# Altium footprint library Misc.PCBLIB: 58 footprints (part 2 of 4)
Each footprint in its own frame and in the unit in brackets; x right, y up, seen from the top. Pads: shape width x height; smd on the part's side, far side on the other; paste and mask are expansions set on the pad; w line width, h text height; cw(c..) or ccw(c..) is an arc to the next point about the centre after c.
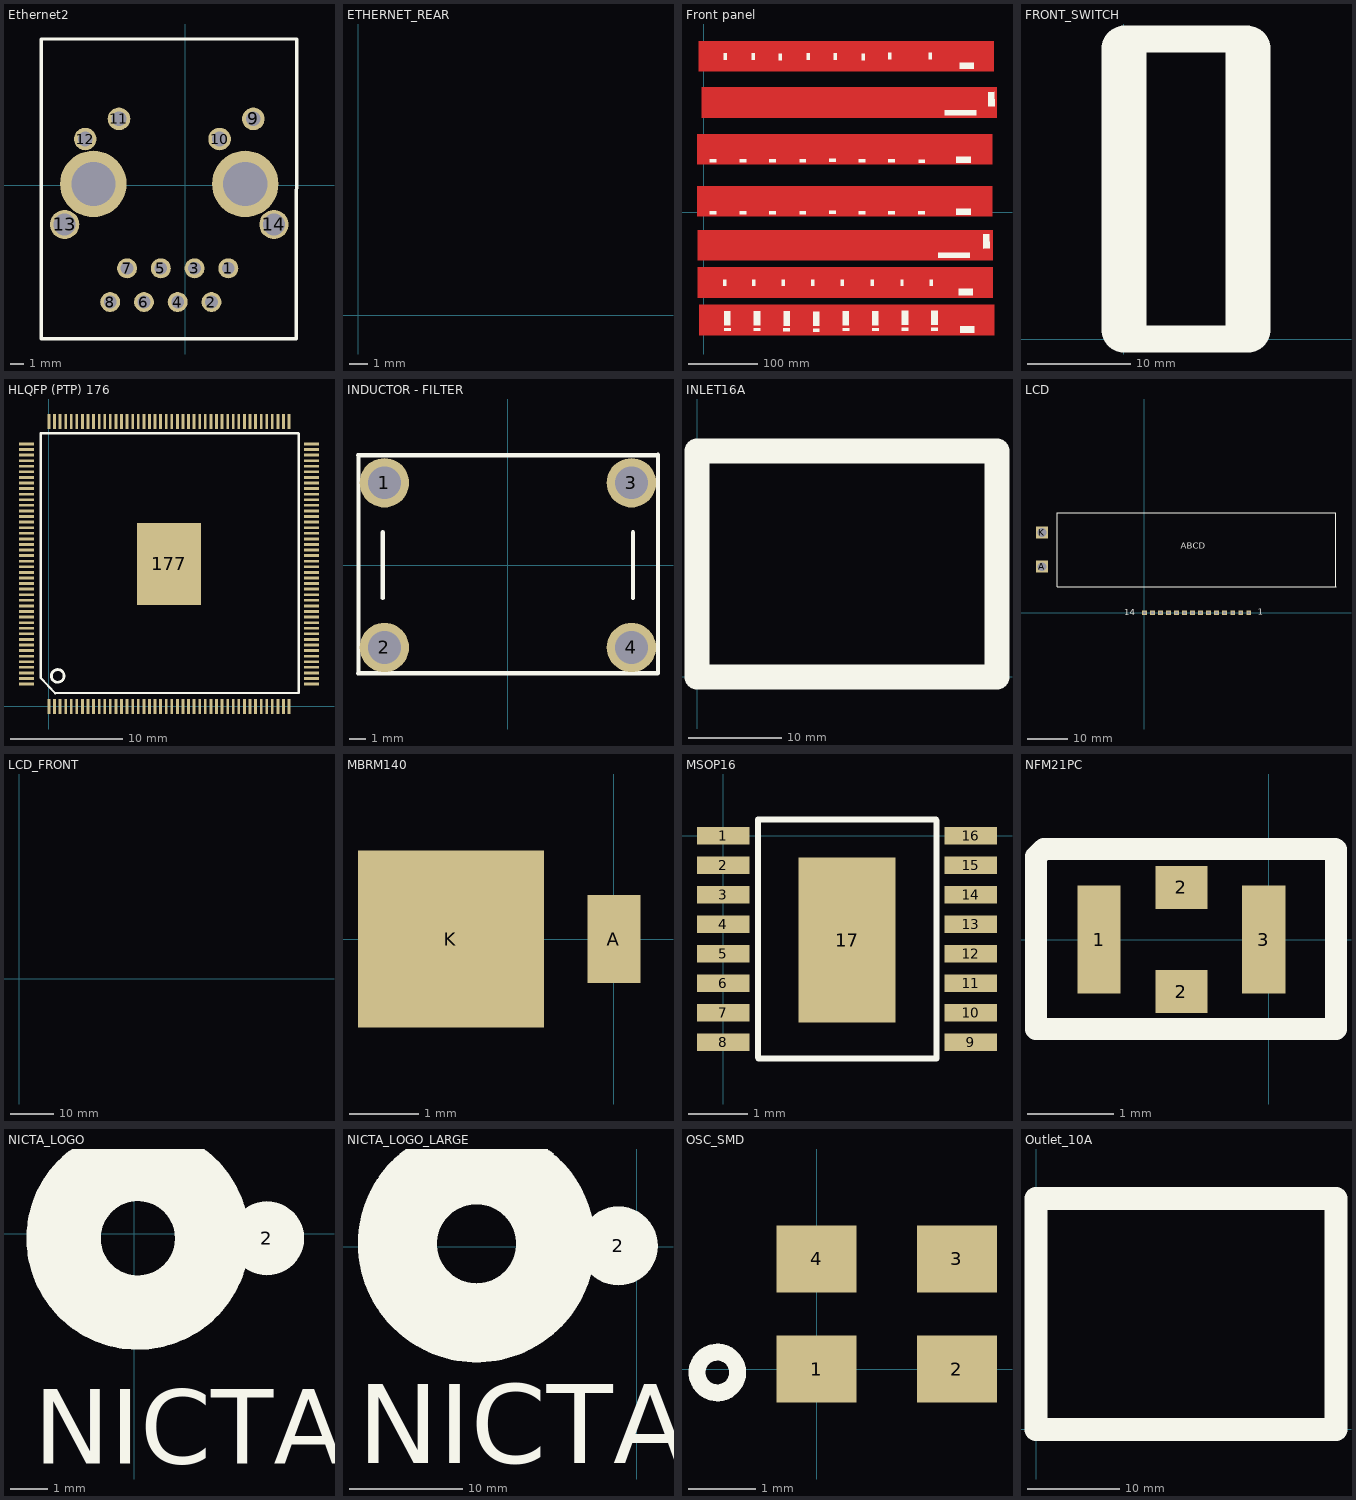
[diagram p1: the footprints below, top view; thin cyan lines are the x and y axes]

## Ethernet2 [mm]
pads (16):
  round 1.5 hole 0.96: 1(3.24,-6.26) 2(1.97,-8.8) 3(0.7,-6.26) 4(-0.57,-8.8) 5(-1.84,-6.26) 6(-3.11,-8.8) 7(-4.38,-6.26) 8(-5.65,-8.8)
  round 1.7 hole 1.1: 9(5.12,4.99) 10(2.58,3.47) 11(-4.99,4.99) 12(-7.53,3.47)
  round 2.2 hole 1.65: 13(-9.08,-2.96) 14(6.67,-2.96)
  round 5 hole 3.32: ""(-6.92,0.09) ""(4.51,0.09)
Top Overlay:
  lines w0.254: 8.36,-11.58 8.39,11 -10.84,11 -10.84,-11.56 8.37,-11.57

## ETHERNET_REAR [mm]
Multi-Layer:
  rectangle: 0,0 16.5,13.9

## Front panel [mm]
Top Layer:
  rectangle: -7.12,201.95 417.88,245.95
  rectangle: -8.88,-69.76 416.12,-25.76
  rectangle: -9.38,-6.47 415.62,37.53
  rectangle: -6.32,-177.11 418.68,-133.11
  rectangle: -8.43,-123.22 416.57,-79.22
  rectangle: -9.38,68.35 415.62,112.35
  rectangle: -2.98,135.63 422.02,179.63
Bottom Layer:
  region: 318.42,241.28 276.42,241.28 276.42,207.28 318.42,207.28
  rectangle: 157.16,205.65 185.16,241.65
  rectangle: 196.64,205.03 224.64,241.03
  rectangle: 234.87,206.27 262.87,242.27
  rectangle: 157.2,205.53 185.2,241.53
  rectangle: 117.72,205.53 145.72,241.53
  rectangle: 78.24,204.91 106.24,240.91
  rectangle: 340.54,217.07 415.54,242.07
  rectangle: 38.08,205.63 66.08,241.63
  rectangle: -1.96,205.53 26.04,241.53
  rectangle: 322,-54.93 397,-29.93
  rectangle: 2.48,-65.42 30.48,-29.42
  rectangle: 42.48,-65.42 70.48,-29.42
  rectangle: 82.48,-65.42 110.48,-29.42
  rectangle: 162.48,-65.42 190.48,-29.42
  rectangle: 122.48,-65.42 150.48,-29.42
  rectangle: 202.48,-65.42 230.48,-29.42
  rectangle: 242.48,-65.42 270.48,-29.42
  rectangle: 282.48,-65.42 310.48,-29.42
  region: 32,4 32,32 -4,32 -4,4
  region: 74.6,4 74.6,32 38.6,32 38.6,4
  rectangle: 335.73,8.64 410.73,33.64
  region: 117.2,4 117.2,32 81.2,32 81.2,4
  region: 159.8,4 159.8,32 123.8,32 123.8,4
  region: 287.56,4.12 287.56,32.12 251.56,32.12 251.56,4.12
  region: 244.96,4.12 244.96,32.12 208.96,32.12 208.96,4.12
  region: 202.36,4.12 202.36,32.12 166.36,32.12 166.36,4.12
  region: 330.15,4.31 330.15,32.31 294.15,32.31 294.15,4.31
  rectangle: 296.99,-173.22 324.99,-137.22
  rectangle: 169.2,-173.41 197.2,-137.41
  rectangle: 211.8,-173.41 239.8,-137.41
  rectangle: 254.4,-173.41 282.4,-137.41
  rectangle: 169.24,-173.53 197.24,-137.53
  rectangle: 126.64,-173.53 154.64,-137.53
  rectangle: 84.04,-173.53 112.04,-137.53
  rectangle: 341.34,-161.99 416.34,-136.99
  rectangle: 41.44,-173.53 69.44,-137.53
  rectangle: -1.16,-173.53 26.84,-137.53
  rectangle: -3.27,-119.64 24.73,-83.64
  rectangle: 39.33,-119.64 67.33,-83.64
  rectangle: 339.23,-108.1 414.23,-83.1
  rectangle: 81.93,-119.64 109.93,-83.64
  rectangle: 124.53,-119.64 152.53,-83.64
  rectangle: 167.13,-119.64 195.13,-83.64
  rectangle: 252.29,-119.52 280.29,-83.52
  rectangle: 209.69,-119.52 237.69,-83.52
  rectangle: 167.09,-119.52 195.09,-83.52
  rectangle: 294.88,-119.33 322.88,-83.33
  region: 332.94,110.8 290.94,110.8 290.94,76.8 332.94,76.8
  region: 202.36,78.94 202.36,106.94 166.36,106.94 166.36,78.94
  region: 244.96,78.94 244.96,106.94 208.96,106.94 208.96,78.94
  region: 159.8,78.82 159.8,106.82 123.8,106.82 123.8,78.82
  region: 117.2,78.82 117.2,106.82 81.2,106.82 81.2,78.82
  rectangle: 335.73,83.46 410.73,108.46
  region: 74.6,78.82 74.6,106.82 38.6,106.82 38.6,78.82
  region: 32,78.82 32,106.82 -4,106.82 -4,78.82
  region: 287.56,78.94 287.56,106.94 251.56,106.94 251.56,78.94
  rectangle: 245.97,139.32 273.97,175.32
  rectangle: 210.97,139.32 238.97,175.32
  rectangle: 175.97,139.32 203.97,175.32
  rectangle: 105.97,139.32 133.97,175.32
  rectangle: 140.97,139.32 168.97,175.32
  rectangle: 70.97,139.32 98.97,175.32
  rectangle: 35.97,139.32 63.97,175.32
  rectangle: 0.97,139.32 28.97,175.32
  rectangle: 331.33,149.81 406.33,174.81
  region: 323.66,175.3 281.66,175.3 281.66,141.3 323.66,141.3
Top Overlay:
  region: 323.41,229.76 323.41,219.76 328.41,219.76 328.41,229.76
  region: 367.89,215.12 367.89,205.52 389.12,205.52 389.12,215.12
  region: 29.03,228.67 29.03,218.67 34.03,218.67 34.03,228.67
  region: 68.81,228.67 68.81,218.67 73.81,218.67 73.81,228.67
  region: 108.17,228.05 108.17,218.05 113.17,218.05 113.17,228.05
  region: 147.94,228.67 147.94,218.67 152.94,218.67 152.94,228.67
  region: 187.05,228.67 187.05,218.67 192.05,218.67 192.05,228.67
  region: 226.92,228.05 226.92,218.05 231.92,218.05 231.92,228.05
  region: 265.5,229.29 265.5,219.29 270.5,219.29 270.5,229.29
  region: 337.2,-57.93 337.2,-65.94 383.26,-65.94 383.26,-57.93
  region: 402.123,-52.737 411.721,-52.573 411.359,-31.346 401.76,-31.51
  region: 368.69,-163.94 368.69,-173.54 389.92,-173.54 389.92,-163.94
  region: 363.08,5.47 363.08,-4.13 384.31,-4.13 384.31,5.47
  region: 38.94,-141.9 29.34,-141.9 29.34,-163 38.94,-163
  region: 18.7,1.89 8.7,1.89 8.7,-3.11 18.7,-3.11
  region: 61.97,1.89 51.97,1.89 51.97,-3.11 61.97,-3.11
  region: 104.44,1.89 94.44,1.89 94.44,-3.11 104.44,-3.11
  region: 147.71,1.89 137.71,1.89 137.71,-3.11 147.71,-3.11
  region: 190.19,2.29 180.19,2.29 180.19,-2.71 190.19,-2.71
  region: 232.66,1.89 222.66,1.89 222.66,-3.11 232.66,-3.11
  region: 275.54,1.89 265.54,1.89 265.54,-3.11 275.54,-3.11
  region: 318.41,1.89 308.41,1.89 308.41,-3.11 318.41,-3.11
  region: 39.26,-166.24 29.26,-166.24 29.26,-171.24 39.26,-171.24
  region: 82.13,-166.24 72.13,-166.24 72.13,-171.24 82.13,-171.24
  region: 81.81,-141.9 72.21,-141.9 72.21,-163 81.81,-163
  region: 124.61,-166.64 114.61,-166.64 114.61,-171.64 124.61,-171.64
  region: 124.29,-142.3 114.69,-142.3 114.69,-163.4 124.29,-163.4
  region: 167.08,-167.03 157.08,-167.03 157.08,-172.03 167.08,-172.03
  region: 166.76,-142.69 157.16,-142.69 157.16,-163.79 166.76,-163.79
  region: 209.56,-166.24 199.56,-166.24 199.56,-171.24 209.56,-171.24
  region: 209.24,-141.9 199.64,-141.9 199.64,-163 209.24,-163
  region: 252.03,-166.24 242.03,-166.24 242.03,-171.24 252.03,-171.24
  region: 251.71,-141.9 242.11,-141.9 242.11,-163 251.71,-163
  region: 294.91,-165.84 284.91,-165.84 284.91,-170.84 294.91,-170.84
  region: 294.59,-141.5 284.99,-141.5 284.99,-162.6 294.59,-162.6
  region: 337.38,-165.84 327.38,-165.84 327.38,-170.84 337.38,-170.84
  region: 337.06,-141.5 327.46,-141.5 327.46,-162.6 337.06,-162.6
  region: 325.09,-96.5 325.09,-106.5 330.09,-106.5 330.09,-96.5
  region: 282.92,-96.5 282.92,-106.5 287.92,-106.5 287.92,-96.5
  region: 239.97,-96.5 239.97,-106.5 244.97,-106.5 244.97,-96.5
  region: 196.98,-96.5 196.98,-106.5 201.98,-106.5 201.98,-96.5
  region: 154.75,-96.5 154.75,-106.5 159.75,-106.5 159.75,-96.5
  region: 111.86,-96.5 111.86,-106.5 116.86,-106.5 116.86,-96.5
  region: 70,-96.5 70,-106.5 75,-106.5 75,-96.5
  region: 27.72,-96.5 27.72,-106.5 32.72,-106.5 32.72,-96.5
  region: 366.58,-110.05 366.58,-119.65 387.81,-119.65 387.81,-110.05
  region: 318.79,75.66 308.79,75.66 308.79,70.66 318.79,70.66
  region: 275.54,76.71 265.54,76.71 265.54,71.71 275.54,71.71
  region: 232.66,76.71 222.66,76.71 222.66,71.71 232.66,71.71
  region: 190.19,77.11 180.19,77.11 180.19,72.11 190.19,72.11
  region: 147.71,76.71 137.71,76.71 137.71,71.71 147.71,71.71
  region: 104.44,76.71 94.44,76.71 94.44,71.71 104.44,71.71
  region: 61.97,76.71 51.97,76.71 51.97,71.71 61.97,71.71
  region: 18.7,76.71 8.7,76.71 8.7,71.71 18.7,71.71
  region: 363.08,80.29 363.08,70.69 384.31,70.69 384.31,80.29
  region: 409.334,151.879 418.933,152.043 418.57,173.27 408.971,173.106
  region: 346.53,146.81 346.53,138.8 392.59,138.8 392.59,146.81
Multi-Layer:
  text "8 Status LEDS" at 342.05,-62.86 h3
  text "8 Status LEDS" at 351.38,141.88 h3

## FRONT_SWITCH [mm] "CR series suffix E"
Top Overlay:
  lines w2.59: 0,0 12,0 ; 0,29.21 12,29.21
  lines w4.4: 0,0.9 0,28.3 ; 12.1,0.9 12.1,28.3
Multi-Layer:
  rectangle: 0,0 12.1,29.21

## HLQFP (PTP) 176 [mm] "Huuuuuuuge"
pads (177):
  rect 0.25x1.35 smd: 1(0,0) 2(0.5,0) 3(1,0) 4(1.5,0) 5(2,0) 6(2.5,0) 7(3,0) 8(3.5,0) 9(4,0) 10(4.5,0) 11(5,0) 12(5.5,0) 13(6,0) 14(6.5,0) 15(7,0) 16(7.5,0) 17(8,0) 18(8.5,0) 19(9,0) 20(9.5,0) 21(10,0) 22(10.5,0) 23(11,0) 24(11.5,0) 25(12,0) 26(12.5,0) 27(13,0) 28(13.5,0) 29(14,0) 30(14.5,0) 31(15,0) 32(15.5,0) 33(16,0) 34(16.5,0) 35(17,0) 36(17.5,0) 37(18,0) 38(18.5,0) 39(19,0) 40(19.5,0) 41(20,0) 42(20.5,0) 43(21,0) 44(21.5,0) 89(21.5,25.5) 90(21,25.5) 91(20.5,25.5) 92(20,25.5) 93(19.5,25.5) 94(19,25.5) 95(18.5,25.5) 96(18,25.5) 97(17.5,25.5) 98(17,25.5) 99(16.5,25.5) 100(16,25.5) 101(15.5,25.5) 102(15,25.5) 103(14.5,25.5) 104(14,25.5) 105(13.5,25.5) 106(13,25.5) 107(12.5,25.5) 108(12,25.5) 109(11.5,25.5) 110(11,25.5) 111(10.5,25.5) 112(10,25.5) 113(9.5,25.5) 114(9,25.5) 115(8.5,25.5) 116(8,25.5) 117(7.5,25.5) 118(7,25.5) 119(6.5,25.5) 120(6,25.5) 121(5.5,25.5) 122(5,25.5) 123(4.5,25.5) 124(4,25.5) 125(3.5,25.5) 126(3,25.5) 127(2.5,25.5) 128(2,25.5) 129(1.5,25.5) 130(1,25.5) 131(0.5,25.5) 132(0,25.5)
  rect 1.35x0.25 smd: 45(23.5,2) 46(23.5,2.5) 47(23.5,3) 48(23.5,3.5) 49(23.5,4) 50(23.5,4.5) 51(23.5,5) 52(23.5,5.5) 53(23.5,6) 54(23.5,6.5) 55(23.5,7) 56(23.5,7.5) 57(23.5,8) 58(23.5,8.5) 59(23.5,9) 60(23.5,9.5) 61(23.5,10) 62(23.5,10.5) 63(23.5,11) 64(23.5,11.5) 65(23.5,12) 66(23.5,12.5) 67(23.5,13) 68(23.5,13.5) 69(23.5,14) 70(23.5,14.5) 71(23.5,15) 72(23.5,15.5) 73(23.5,16) 74(23.5,16.5) 75(23.5,17) 76(23.5,17.5) 77(23.5,18) 78(23.5,18.5) 79(23.5,19) 80(23.5,19.5) 81(23.5,20) 82(23.5,20.5) 83(23.5,21) 84(23.5,21.5) 85(23.5,22) 86(23.5,22.5) 87(23.5,23) 88(23.5,23.5) 133(-2,23.5) 134(-2,23) 135(-2,22.5) 136(-2,22) 137(-2,21.5) 138(-2,21) 139(-2,20.5) 140(-2,20) 141(-2,19.5) 142(-2,19) 143(-2,18.5) 144(-2,18) 145(-2,17.5) 146(-2,17) 147(-2,16.5) 148(-2,16) 149(-2,15.5) 150(-2,15) 151(-2,14.5) 152(-2,14) 153(-2,13.5) 154(-2,13) 155(-2,12.5) 156(-2,12) 157(-2,11.5) 158(-2,11) 159(-2,10.5) 160(-2,10) 161(-2,9.5) 162(-2,9) 163(-2,8.5) 164(-2,8) 165(-2,7.5) 166(-2,7) 167(-2,6.5) 168(-2,6) 169(-2,5.5) 170(-2,5) 171(-2,4.5) 172(-2,4) 173(-2,3.5) 174(-2,3) 175(-2,2.5) 176(-2,2)
  rect 5.73x7.31 smd: 177(10.751,12.756)
Top Overlay:
  circle w0.254: c0.789,2.734 r0.567
  lines w0.2: -0.739,2.578 0.559,1.178 ; -0.72,2.559 -0.72,24.42 ; -0.72,24.46 22.339,24.442 ; 0.55,1.21 22.36,1.21 ; 22.37,1.25 22.37,24.43

## INDUCTOR - FILTER [mm] "2x0.4mH"
pads (4):
  round 3 hole 2 mask+0: 1(-7.5,5) 2(-7.5,-5) 3(7.5,5) 4(7.5,-5)
Top Overlay:
  lines w0.254: -9.1,-6.57 9.1,-6.57 ; -9.1,6.67 9.1,6.67 ; -9.075,-6.525 -9.075,6.675 ; -7.6,-2 -7.6,2 ; 7.6,-2 7.6,2 ; 9.115,-6.495 9.115,6.705

## INLET16A [mm]
Top Overlay:
  lines w2.7: 0,0 0,24.3 32.3,24.3 32.3,0 0,0
Multi-Layer:
  rectangle: 0,0 32.3,24.3

## LCD [mm]
pads (16):
  rect 1.2x1.2 hole 0.7 unplated: 1(0,0) 2(2,0) 3(4,0) 4(6,0) 5(8,0) 6(10,0) 7(12,0) 8(14,0) 9(16,0) 10(18,0) 11(20,0) 12(22,0) 13(24,0) 14(26,0)
  rect 3x3 hole 2.2: A(-25.55,11.5) K(-25.55,20)
Top Overlay:
  lines w0.254: -21.75,6.5 -21.75,25 47.75,25 ; -21.73,6.5 47.77,6.5 ; 47.74,6.5 47.74,25
  text "ABCD" at 9.04,15.94 h1.52
  text "1" at 28.23,-0.52 h1.52
  text "14" at -5.05,-0.66 h1.52

## LCD_FRONT [mm]
Multi-Layer:
  rectangle: 0,0 69.75,18.45

## MBRM140 [mm]
pads (2):
  rect 0.762x1.27 smd: A(0,0)
  rect 2.67x2.54 smd: K(-2.34,0)

## MSOP16 [mm]
pads (17):
  rect 0.89x0.3 smd: 1(0,0) 2(0,-0.5) 3(0,-1) 4(0,-1.5) 5(0,-2) 6(0,-2.5) 7(0,-3) 8(0,-3.5) 9(4.2,-3.5) 10(4.2,-3) 11(4.2,-2.5) 12(4.2,-2) 13(4.2,-1.5) 14(4.2,-1) 15(4.2,-0.5) 16(4.2,0)
  rect 1.65x2.8 smd: 17(2.1,-1.77)
Top Overlay:
  lines w0.1: 0.59,-3.759 0.59,0.28 ; 0.6,-3.78 3.62,-3.78 3.62,0.259 ; 0.6,0.28 3.61,0.28

## NFM21PC [mm]
pads (4):
  rect 0.5x1.25 smd: 1(-1.96,0) 3(-0.06,0)
  rect 0.6x0.5 smd: 2(-1.01,-0.6) 2(-1.01,0.6)
Top Overlay:
  lines w0.254: 0.763,-1.034 -2.687,-1.034 -2.687,0.956 -2.597,1.046 0.763,1.046 ; 0.773,-1.034 0.773,1.036

## NICTA_LOGO [mm]
pads (1):
  round 2 on Top Overlay mask+0.2: 2(3.575,-0.125)
Top Overlay:
  circle w2: c0.1,-0.125 r2
  text "NICTA" at -2.7,-6.2 h2

## NICTA_LOGO_LARGE [mm]
pads (1):
  round 7 on Top Overlay mask+0.2: 2(-1.62,0.06)
Top Overlay:
  circle w7: c-14.19,0.25 r7
  text "NICTA" at -24.69,-19.19 h7

## OSC_SMD [mm]
pads (4):
  rect 1.2x1 smd: 1(0,0) 2(2.1,0) 3(2.1,1.65) 4(0,1.65)
Top Overlay:
  circle w0.254: c-1.484,-0.05 r0.304

## Outlet_10A [mm]
Top Overlay:
  lines w2.5: 0,0 0,25 32.5,25 32.5,0 0,0
Multi-Layer:
  rectangle: 0,0 32.5,25